# Altium footprint library FTSH-107-XX-X-DV.PcbLib: 1 footprints
Each footprint in its own frame and in the unit in brackets; x right, y up, seen from the top. Pads: shape width x height; smd on the part's side, far side on the other; paste and mask are expansions set on the pad; w line width, h text height; cw(c..) or ccw(c..) is an arc to the next point about the centre after c.
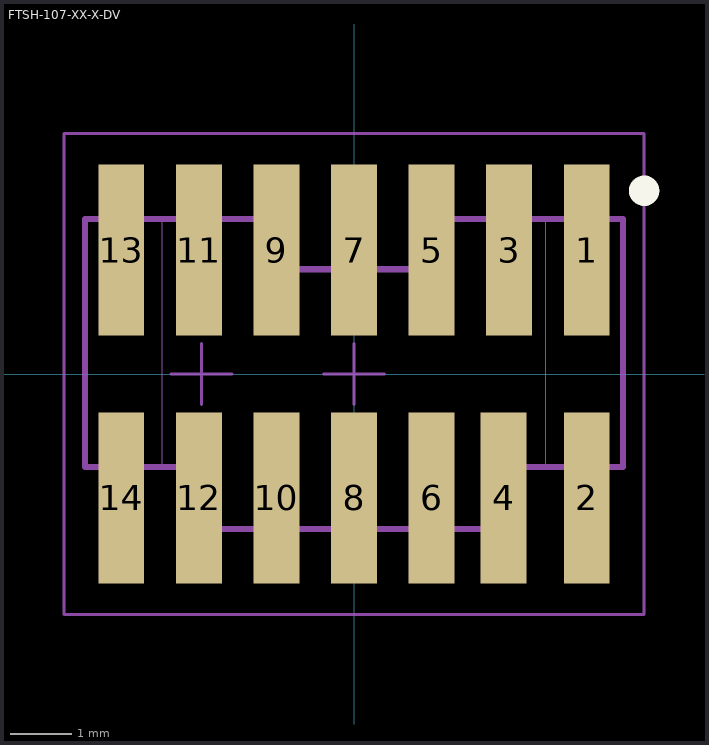
[diagram p0: the footprint, top view; thin cyan lines are the x and y axes]

## FTSH-107-XX-X-DV [mm] "1.27mm pitch, 14 pin, terminal strip; vertical, SMT"
height 5.97
pads (14):
  rect 0.75x2.8 smd mask+0: 1(3.81,2.03) 2(3.81,-2.03) 3(2.54,2.03) 4(2.45,-2.03) 5(1.27,2.03) 6(1.27,-2.03) 7(0,2.03) 8(0,-2.03) 9(-1.27,2.03) 10(-1.27,-2.03) 11(-2.54,2.03) 12(-2.54,-2.03) 13(-3.81,2.03) 14(-3.81,-2.03)
Top Overlay:
  circle w0.25: c4.75,3 r0.125
Bottom Dimension:
  lines w0.001: -3.58,1.714 -3.58,2.54 ; -3.137,-1.524 -3.137,2.54 -1.079,2.54 -1.079,1.714 1.079,1.714 1.079,2.54 3.137,2.54 3.137,-1.524 2.54,-1.524 2.54,-2.54 -2.54,-2.54 -2.54,-1.524 -3.137,-1.524
Top Comp Body:
  lines w0.1: -4.407,-1.524 -4.407,2.54 ; -4.4,-1.524 -2.54,-1.524 -2.54,-2.54 2.54,-2.54 2.54,-1.524 4.4,-1.524 ; -4.4,2.54 -1.079,2.54 -1.079,1.714 1.079,1.714 1.079,2.54 4.4,2.54 ; -3.58,1.714 -3.58,2.54 ; 4.407,-1.524 4.407,2.54
Top Courtyard:
  lines w0.05: -3,0 -2,0 ; -2.5,-0.5 -2.5,0.5 ; -0.5,0 0.5,0 ; 0,-0.5 0,0.5 ; -4.75,-3.937 4.75,-3.937 4.75,3.937 -4.75,3.937 -4.75,-3.937